# Altium footprint library Antennas.PcbLib: 2 footprints
Each footprint in its own frame and in the unit in brackets; x right, y up, seen from the top. Pads: shape width x height; smd on the part's side, far side on the other; paste and mask are expansions set on the pad; w line width, h text height; cw(c..) or ccw(c..) is an arc to the next point about the centre after c.
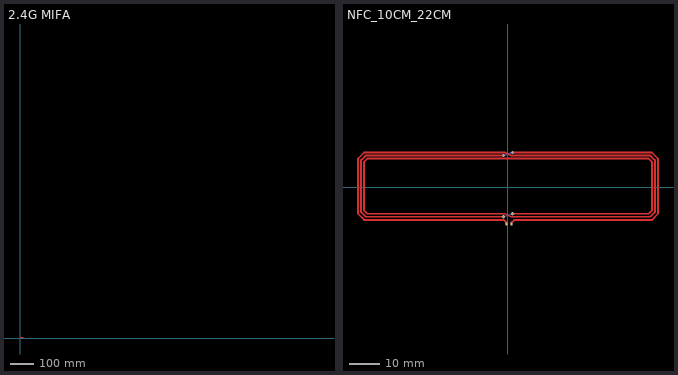
[diagram p0: the footprints below, top view; thin cyan lines are the x and y axes]

## 2.4G MIFA [mm] "2.4G MIFA Trace Antenna"
pads (2):
  rect 0.5x0.5 smd paste-3: 1(2.05,0.25)
  rect 1.1x0.5 smd paste-3: 2(0.55,0.25)
Top Layer:
  region: 1.1,5.5 0,5.5 0,0.5 1.1,0.5
  region: 4.3,5.5 1.1,5.5 1.1,5 4.3,5
  region: 2.3,0.5 2.3,5 1.8,5 1.8,0.5
  region: 4.3,5 3.8,5 3.8,1.5 4.3,1.5
  region: 8.3,5.5 5.8,5.5 5.8,5 8.3,5
  region: 8.3,5 7.8,5 7.8,1.5 8.3,1.5
  region: 5.8,2 4.3,2 4.3,1.5 5.8,1.5
  region: 6.3,5 5.8,5 5.8,1.5 6.3,1.5
  region: 12.3,5.5 9.8,5.5 9.8,5 12.3,5
  region: 12.3,5 11.8,5 11.8,2.7 12.3,2.7
  region: 9.8,2 8.3,2 8.3,1.5 9.8,1.5
  region: 10.3,5 9.8,5 9.8,1.5 10.3,1.5
Top Solder:
  region: 18.6,8.5 -5.08,8.5 -5.08,0 18.6,0
Keep-Out Layer:
  region: 1270,1270 1270,1270 1270,1270 1270,1270

## NFC_10CM_22CM [mm]
pads (2):
  rrect50% 0.61x1 smd paste-2 mask-2: 1(-0.508,-11.938) 2(1.143,-11.938)
via 1.538,11.408 diameter 1.006 hole 0.6
via 1.538,-8.592 diameter 1.006 hole 0.6
via -1.462,-9.592 diameter 1.006 hole 0.6
via -1.462,10.408 diameter 1.006 hole 0.6
Top Layer:
  lines w0.61: -1.462,-9.592 -46.462,-9.592 -47.962,-8.092 -47.962,8.908 -46.462,10.408 -1.462,10.408 ; -0.508,-11.938 -0.508,-11.43 -1.346,-10.592 -46.962,-10.592 -48.962,-8.592 -48.962,9.408 -46.962,11.408 -0.962,11.408 1.038,10.408 46.538,10.408 48.038,8.908 48.038,-8.092 46.538,-9.592 1.038,-9.592 -0.962,-8.592 -45.962,-8.592 -46.962,-7.592 -46.962,8.408 -45.962,9.408 46.038,9.408 47.038,8.408 47.038,-7.592 46.038,-8.592 1.538,-8.592 ; 1.143,-11.938 1.143,-11.557 2.032,-10.668 46.962,-10.668 49.038,-8.592 49.038,9.408 47.038,11.408 1.538,11.408
Bottom Layer:
  lines w0.61: -1.462,-9.592 1.538,-8.592 ; -1.462,10.408 1.538,11.408